# Altium schematic symbol library Kvant_smd.SchLib: 15 symbols
Pins are listed as number, name and electrical type; pins without a type are passive.

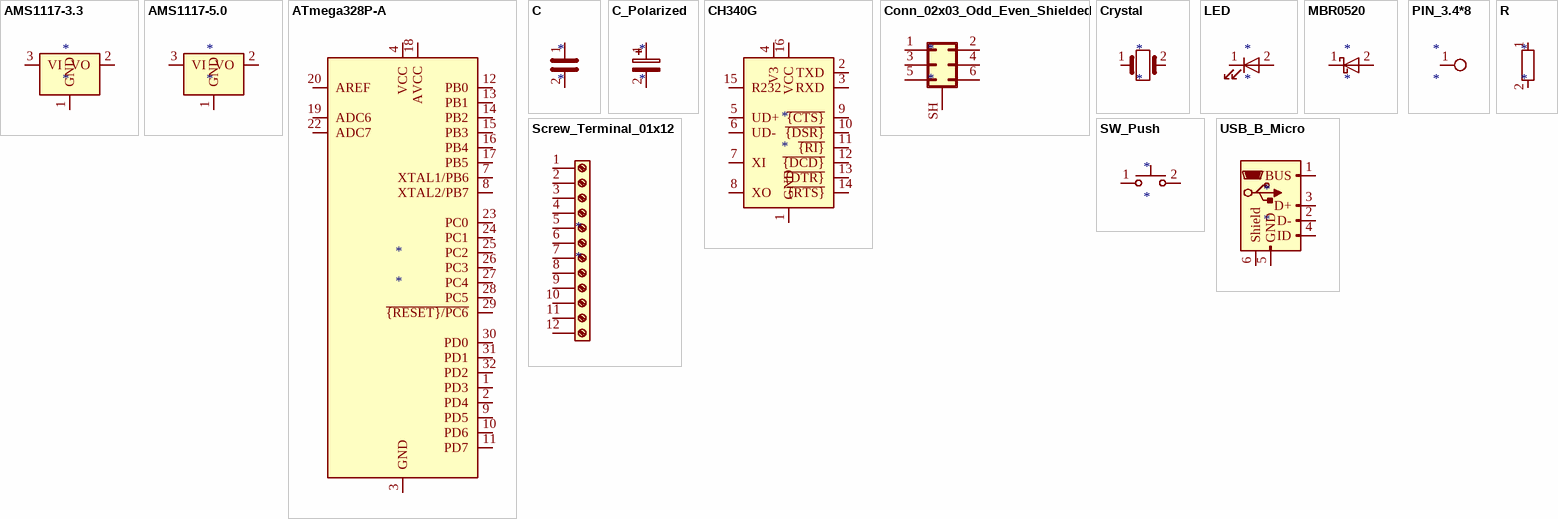
[diagram p0: symbols AMS1117-3.3 to USB_B_Micro]

## AMS1117-3.3
designator *
pins: 1 GND, 2 VO, 3 VI

## AMS1117-5.0
designator *
pins: 1 GND, 2 VO, 3 VI

## ATmega328P-A
designator *
pins: 1 PD3, 2 PD4, 3 GND, 4 VCC, 5 GND hidden, 6 VCC hidden, 7 XTAL1/PB6, 8 XTAL2/PB7, 9 PD5, 10 PD6, 11 PD7, 12 PB0, 13 PB1, 14 PB2, 15 PB3, 16 PB4, 17 PB5, 18 AVCC, 19 ADC6, 20 AREF, 21 GND hidden, 22 ADC7, 23 PC0, 24 PC1, 25 PC2, 26 PC3, 27 PC4, 28 PC5, 29 ~{{RESET}/PC6}, 30 PD0, 31 PD1, 32 PD2

## C
designator *
pins: 1, 2

## C_Polarized
designator *
pins: 1, 2

## CH340G
designator *
pins: 1 GND, 2 TXD, 3 RXD, 4 V3, 5 UD+, 6 UD-, 7 XI, 8 XO, 9 ~{{CTS}}, 10 ~{{DSR}}, 11 ~{{RI}}, 12 ~{{DCD}}, 13 ~{{DTR}}, 14 ~{{RTS}}, 15 R232, 16 VCC

## Conn_02x03_Odd_Even_Shielded
designator *
pins: 1 Pin_1, 2 Pin_2, 3 Pin_3, 4 Pin_4, 5 Pin_5, 6 Pin_6, SH Shield

## Crystal
designator *
pins: 1, 2

## LED
designator *
pins: 1 K, 2 A

## MBR0520
designator *
pins: 1 K, 2 A

## PIN_3.4*8
designator *
pins: 1 pin

## R
designator *
pins: 1, 2

## Screw_Terminal_01x12
designator *
pins: 1 Pin_1, 2 Pin_2, 3 Pin_3, 4 Pin_4, 5 Pin_5, 6 Pin_6, 7 Pin_7, 8 Pin_8, 9 Pin_9, 10 Pin_10, 11 Pin_11, 12 Pin_12

## SW_Push
designator *
pins: 1, 2

## USB_B_Micro
designator *
pins: 1 VBUS, 2 D-, 3 D+, 4 ID, 5 GND, 6 Shield